# Altium schematic symbol library Reverse Polarity Protection.SchLib: 2 symbols
Pins are listed as number, name and electrical type; pins without a type are passive.

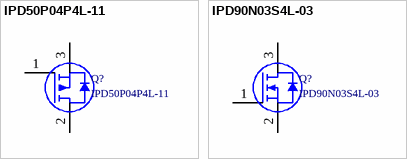
[diagram p0: symbols IPD50P04P4L-11 to IPD90N03S4L-03]

## IPD50P04P4L-11
designator Q?
MOSFET P-CH 40V 50A TO252-3; Manufacturer: Infineon; Rise Time: 9ns; Drain to Source Voltage (Vdss): -40V; Turn-On Delay Time: 12ns; Turn-Off Delay Time: 46ns; Fall Time: 39ns; Gate to Source Voltage (Vgs): 16V; Input Capacitance: 3.9nF; Rds On Max: 10.6mR; Max Power Dissipation: 58W; Drain to Source Resistance: 17.2mR; Element Configuration: Single; Supplier 1: Digi-Key; Manufacturer Part Number: IPD50P04P4L-11; Stock 1: 23273; Pricing 1: 1 = 1.10000, 10 = 0.97700, 100 = 0.77250, 500 = 0.59910, 1000 = 0.47297 (USD); RoHS 1: Yes; Case/Package: TO-252-3; Number of Pins: 3; Min Operating Temperature: -55°C; Max Operating Temperature: 175°C; Continuous Drain Current (ID): 50A; Package Quantity: 1; Packaging: Tape and Reel; Max Dual Supply Voltage: -40V; Length: 6.5mm; Height: 2.3mm; Width: 6.22mm; Halogen Free: Halogen Free; Lead Free: Lead Free; REACH SVHC: No SVHC; ComponentLink1URL: https://datasheet.ciiva.com/6379/infineon-ipd50p04p4l-11-ds-v01-00-en-6379847.pdf?src-supplier=Digi-Key; ComponentLink1Description: https://datasheet.ciiva.com/6379/infineon-ipd50p04p4l-11-ds-v01-00-en-6379847.pdf?src-supplier=Digi-Key; Supplier Part Number 1: IPD50P04P4L11ATMA1CT-ND
footprint DPAK228P1000X235-3M (D-PAK, 3-Pads, Body 6.21x6.69mm (max), IPC Low Density)
pins: 1 "Gate", 2 "Source", 3 "Drain"

## IPD90N03S4L-03
designator Q?
MOSFET N-CH 30V 90A TO252-3; Manufacturer: Infineon; Turn-Off Delay Time: 37ns; Gate to Source Voltage (Vgs): 16V; Input Capacitance: 5.1nF; Rise Time: 6ns; Rds On Max: 3.3mR; Max Power Dissipation: 94W; Fall Time: 7ns; Element Configuration: Single; Supplier 1: Digi-Key; Manufacturer Part Number: IPD90N03S4L-03; Stock 1: 6677; Pricing 1: 1 = 1.41000, 10 = 1.25300, 100 = 0.99010, 500 = 0.76786, 1000 = 0.60621 (USD); RoHS 1: Yes; Case/Package: TO-252-3; Number of Pins: 3; Min Operating Temperature: -55°C; Max Operating Temperature: 175°C; Drain to Source Voltage (Vdss): 30V; Continuous Drain Current (ID): 90A; Package Quantity: 1; Packaging: Tape and Reel; Max Dual Supply Voltage: 30V; Drain to Source Breakdown Voltage: 30V; Power Dissipation: 94W; Halogen Free: Halogen Free; REACH SVHC: No SVHC; ComponentLink1URL: https://datasheet.ciiva.com/941/infineon-ipd90n03s4l-03-ds-v02-01-en-941042.pdf?src-supplier=Digi-Key; ComponentLink1Description: https://datasheet.ciiva.com/941/infineon-ipd90n03s4l-03-ds-v02-01-en-941042.pdf?src-supplier=Digi-Key; ComponentLink2URL: https://datasheet.ciiva.com/941/infineon-ipd90n03s4l-03-ds-v02-01-en-941043.pdf?src-supplier=Digi-Key; ComponentLink2Description: https://datasheet.ciiva.com/941/infineon-ipd90n03s4l-03-ds-v02-01-en-941043.pdf?src-supplier=Digi-Key; ComponentLink3URL: https://datasheet.ciiva.com/941/infineon-ipd90n03s4l-03-ds-v02-01-en-941044.pdf?src-supplier=Digi-Key; ComponentLink3Description: https://datasheet.ciiva.com/941/infineon-ipd90n03s4l-03-ds-v02-01-en-941044.pdf?src-supplier=Digi-Key; Supplier Part Number 1: IPD90N03S4L03ATMA1CT-ND
footprint DPAK228P1000X235-3M (D-PAK, 3-Pads, Body 6.21x6.69mm (max), IPC Low Density)
pins: 1 "Gate", 2 "Source", 3 "Drain"